# EAGLE library part OI3 (library openinverter)
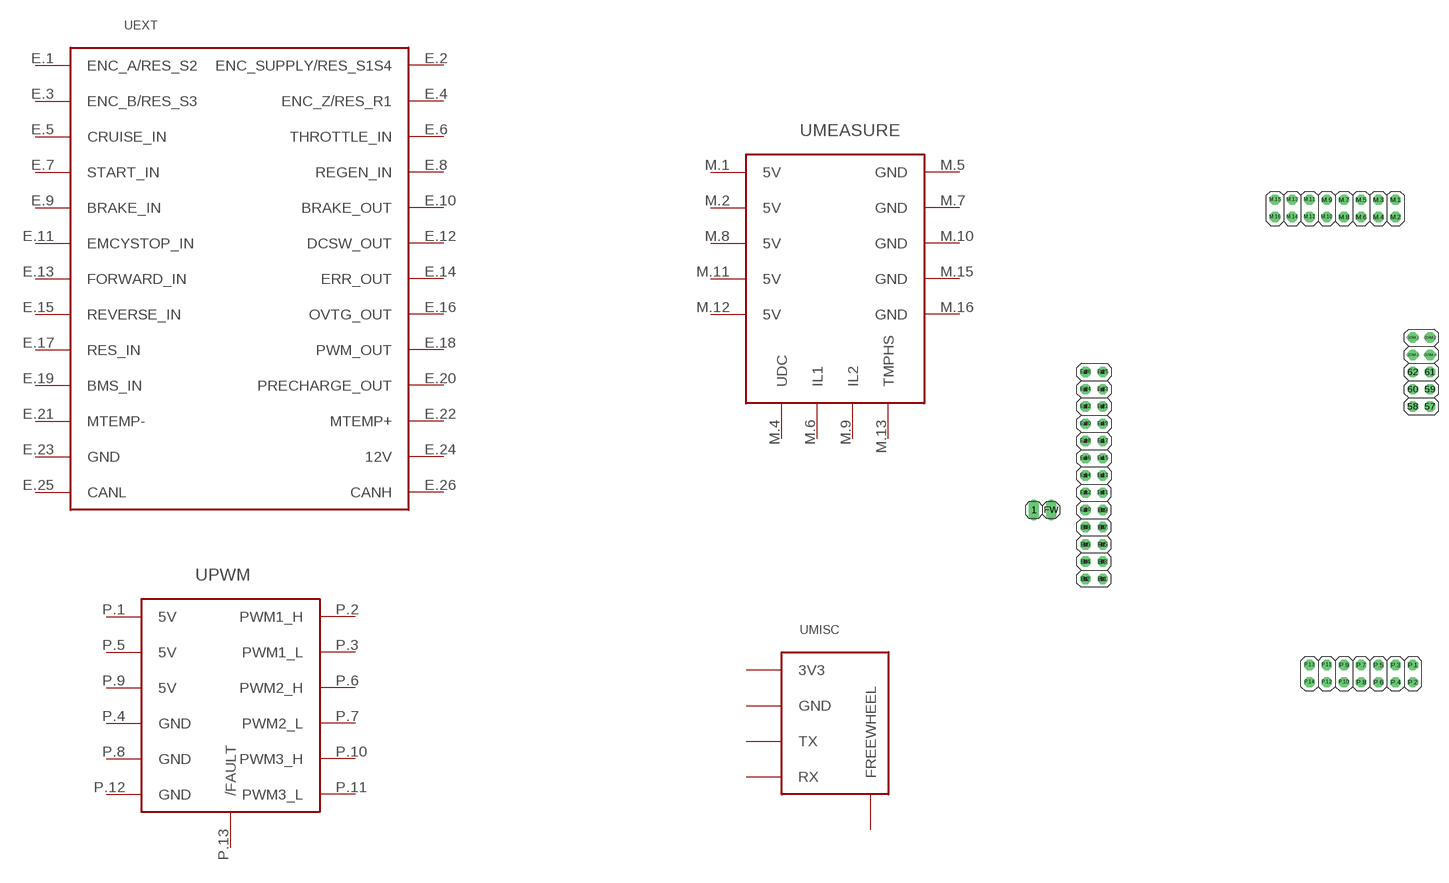
[diagram p0: symbol with the pads of OI3; footprint OI3]

Designator prefix U; gates EXT=OI3_EXT MEASURE=OI3_MEASURE PWM=OI3_PWM MISC=OI3_MISC

## OI3  [OI3]
COM.1  MISC:3V3  pwr
COM.2  MISC:GND  pwr
COM.3  MISC:TX  out
COM.4  MISC:RX  in
E.1  EXT:ENC_A/RES_S2  in
E.2  EXT:ENC_SUPPLY/RES_S1S4
E.3  EXT:ENC_B/RES_S3  in
E.4  EXT:ENC_Z/RES_R1
E.5  EXT:CRUISE_IN  in
E.6  EXT:THROTTLE_IN  in
E.7  EXT:START_IN  in
E.8  EXT:REGEN_IN  in
E.9  EXT:BRAKE_IN  in
E.10  EXT:BRAKE_OUT  out
E.11  EXT:EMCYSTOP_IN  in
E.12  EXT:DCSW_OUT  out
E.13  EXT:FORWARD_IN  in
E.14  EXT:ERR_OUT  out
E.15  EXT:REVERSE_IN  in
E.16  EXT:OVTG_OUT  out
E.17  EXT:RES_IN  in
E.18  EXT:PWM_OUT  out
E.19  EXT:BMS_IN  in
E.20  EXT:PRECHARGE_OUT  out
E.21  EXT:MTEMP-  in
E.22  EXT:MTEMP+  in
E.23  EXT:GND  pwr
E.24  EXT:12V  pwr
E.25  EXT:CANL
E.26  EXT:CANH
FW  MISC:FREEWHEEL  out
M.1  MEASURE:5V  in
M.2  MEASURE:5V  in
M.4  MEASURE:UDC  in
M.5  MEASURE:GND  in
M.6  MEASURE:IL1  in
M.7  MEASURE:GND  in
M.8  MEASURE:5V  in
M.9  MEASURE:IL2  in
M.10  MEASURE:GND  in
M.11  MEASURE:5V  in
M.12  MEASURE:5V  in
M.13  MEASURE:TMPHS  in
M.15  MEASURE:GND  in
M.16  MEASURE:GND  in
P.1  PWM:5V
P.2  PWM:PWM1_H  out
P.3  PWM:PWM1_L  out
P.4  PWM:GND
P.5  PWM:5V
P.6  PWM:PWM2_H  out
P.7  PWM:PWM2_L  out
P.8  PWM:GND
P.9  PWM:5V
P.10  PWM:PWM3_H  out
P.11  PWM:PWM3_L  out
P.12  PWM:GND
P.13  PWM:/FAULT  in

## Footprint OI3 (pad centres in mm)
drill 1.016 long: 1 6.35,30.48; FW 8.89,30.48
drill 1.016 octagon: 57 64.77,45.72; 58 62.23,45.72; 59 64.77,48.26; 60 62.23,48.26; 61 64.77,50.8; 62 62.23,50.8; COM.1 62.23,55.88; COM.2 64.77,55.88; COM.3 62.23,53.34; COM.4 64.77,53.34; E.1 16.51,20.32; E.2 13.97,20.32; E.3 16.51,22.86; E.4 13.97,22.86; E.5 16.51,25.4; E.6 13.97,25.4; E.7 16.51,27.94; E.8 13.97,27.94; E.9 16.51,30.48; E.10 13.97,30.48; E.11 16.51,33.02; E.12 13.97,33.02; E.13 16.51,35.56; E.14 13.97,35.56; E.15 16.51,38.1; E.16 13.97,38.1; E.17 16.51,40.64; E.18 13.97,40.64; E.19 16.51,43.18; E.20 13.97,43.18; E.21 16.51,45.72; E.22 13.97,45.72; E.23 16.51,48.26; E.24 13.97,48.26; E.25 16.51,50.8; E.26 13.97,50.8; M.1 59.69,76.2; M.2 59.69,73.66; M.3 57.15,76.2; M.4 57.15,73.66; M.5 54.61,76.2; M.6 54.61,73.66; M.7 52.07,76.2; M.8 52.07,73.66; M.9 49.53,76.2; M.10 49.53,73.66; M.11 46.99,76.2; M.12 46.99,73.66; M.13 44.45,76.2; M.14 44.45,73.66; M.15 41.91,76.2; M.16 41.91,73.66; P.1 62.23,7.62; P.2 62.23,5.08; P.3 59.69,7.62; P.4 59.69,5.08; P.5 57.15,7.62; P.6 57.15,5.08; P.7 54.61,7.62; P.8 54.61,5.08; P.9 52.07,7.62; P.10 52.07,5.08; P.11 49.53,7.62; P.12 49.53,5.08; P.13 46.99,7.62; P.14 46.99,5.08